# Altium schematic symbol library 833H-1C.SchLib: 1 symbol
Pins are listed as number, name and electrical type; pins without a type are passive.

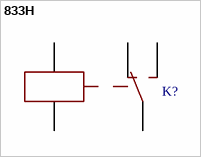
[diagram p0: symbol 833H]

## 833H
designator K?, comment Relay  (value not drawn)
footprint 1C
pins: 1, 2, 3, 4, 5